# EAGLE library part ML26?E (library con-harting-ml)
HARTING
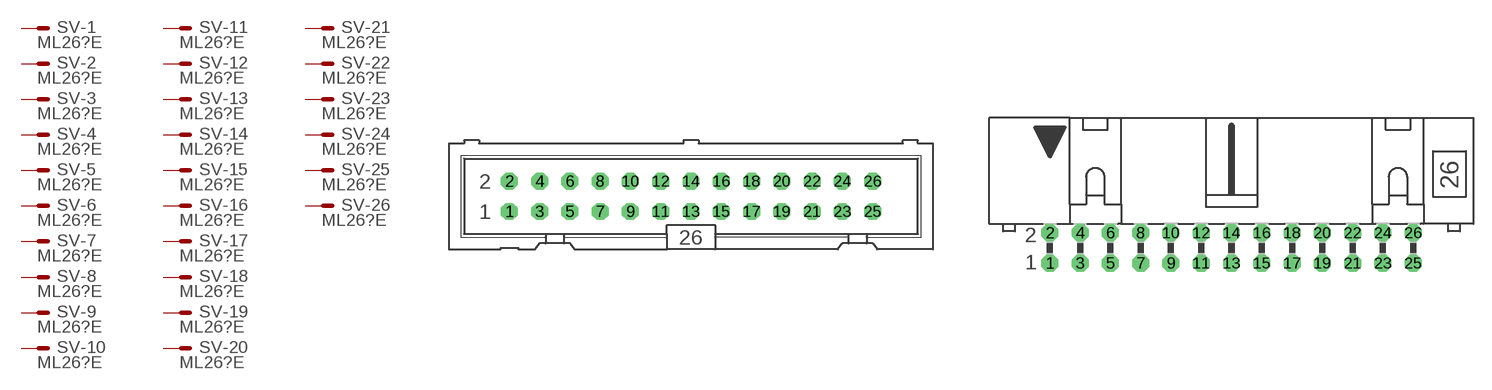
[diagram p17: symbol with the pads of ML26; footprints ML26, ML26L]

Designator prefix SV; gates -1=M -2=M -3=M -4=M -5=M -6=M -7=M -8=M -9=M -10=M -11=M -12=M -13=M -14=M -15=M -16=M -17=M -18=M -19=M -20=M -21=M -22=M -23=M -24=M -25=M -26=M

## ML26E (OC_FARNELL: unknown; OC_NEWARK: unknown)  [ML26]
1  -1:S  pas
2  -2:S  pas
3  -3:S  pas
4  -4:S  pas
5  -5:S  pas
6  -6:S  pas
7  -7:S  pas
8  -8:S  pas
9  -9:S  pas
10  -10:S  pas
11  -11:S  pas
12  -12:S  pas
13  -13:S  pas
14  -14:S  pas
15  -15:S  pas
16  -16:S  pas
17  -17:S  pas
18  -18:S  pas
19  -19:S  pas
20  -20:S  pas
21  -21:S  pas
22  -22:S  pas
23  -23:S  pas
24  -24:S  pas
25  -25:S  pas
26  -26:S  pas

## ML26LE (OC_FARNELL: unknown; OC_NEWARK: unknown)  [ML26L]
Pads as for ML26

## ML263ME (OC_FARNELL: unknown; OC_NEWARK: unknown)  [3M_26]
Pads as for ML26

## ML263MLE (OC_FARNELL: unknown; OC_NEWARK: unknown)  [3M_26L]
Pads as for ML26

## Footprint ML26 (pad centres in mm)
HARTING
drill 0.914 octagon: 1 -15.24,-1.27; 2 -15.24,1.27; 3 -12.7,-1.27; 4 -12.7,1.27; 5 -10.16,-1.27; 6 -10.16,1.27; 7 -7.62,-1.27; 8 -7.62,1.27; 9 -5.08,-1.27; 10 -5.08,1.27; 11 -2.54,-1.27; 12 -2.54,1.27; 13 0,-1.27; 14 0,1.27; 15 2.54,-1.27; 16 2.54,1.27; 17 5.08,-1.27; 18 5.08,1.27; 19 7.62,-1.27; 20 7.62,1.27; 21 10.16,-1.27; 22 10.16,1.27; 23 12.7,-1.27; 24 12.7,1.27; 25 15.24,-1.27; 26 15.24,1.27

## Footprint ML26L (pad centres in mm)
HARTING
drill 0.914 octagon: 1 -15.24,-1.27; 2 -15.24,1.27; 3 -12.7,-1.27; 4 -12.7,1.27; 5 -10.16,-1.27; 6 -10.16,1.27; 7 -7.62,-1.27; 8 -7.62,1.27; 9 -5.08,-1.27; 10 -5.08,1.27; 11 -2.54,-1.27; 12 -2.54,1.27; 13 0,-1.27; 14 0,1.27; 15 2.54,-1.27; 16 2.54,1.27; 17 5.08,-1.27; 18 5.08,1.27; 19 7.62,-1.27; 20 7.62,1.27; 21 10.16,-1.27; 22 10.16,1.27; 23 12.7,-1.27; 24 12.7,1.27; 25 15.24,-1.27; 26 15.24,1.27

## Footprint 3M_26 (pad centres in mm)
3M
drill 0.813 square: 1 -15.24,-1.27; 2 -15.24,1.27; 3 -12.7,-1.27; 4 -12.7,1.27; 5 -10.16,-1.27; 6 -10.16,1.27; 7 -7.62,-1.27; 8 -7.62,1.27; 9 -5.08,-1.27; 10 -5.08,1.27; 11 -2.54,-1.27; 12 -2.54,1.27; 13 0,-1.27; 14 0,1.27; 15 2.54,-1.27; 16 2.54,1.27; 17 5.08,-1.27; 18 5.08,1.27; 19 7.62,-1.27; 20 7.62,1.27; 21 10.16,-1.27; 22 10.16,1.27; 23 12.7,-1.27; 24 12.7,1.27; 25 15.24,-1.27; 26 15.24,1.27

## Footprint 3M_26L (pad centres in mm)
3M
drill 0.813 square: 1 -15.24,-5.08; 2 -15.24,-2.54; 3 -12.7,-5.08; 4 -12.7,-2.54; 5 -10.16,-5.08; 6 -10.16,-2.54; 7 -7.62,-5.08; 8 -7.62,-2.54; 9 -5.08,-5.08; 10 -5.08,-2.54; 11 -2.54,-5.08; 12 -2.54,-2.54; 13 0,-5.08; 14 0,-2.54; 15 2.54,-5.08; 16 2.54,-2.54; 17 5.08,-5.08; 18 5.08,-2.54; 19 7.62,-5.08; 20 7.62,-2.54; 21 10.16,-5.08; 22 10.16,-2.54; 23 12.7,-5.08; 24 12.7,-2.54; 25 15.24,-5.08; 26 15.24,-2.54
hole 2.54 at -21.158,-3.277
hole 2.54 at 21.158,-3.277